# Altium footprint library CEP99102.PcbLib: 1 footprints
Each footprint in its own frame and in the unit in brackets; x right, y up, seen from the top. Pads: shape width x height; smd on the part's side, far side on the other; paste and mask are expansions set on the pad; w line width, h text height; cw(c..) or ccw(c..) is an arc to the next point about the centre after c.
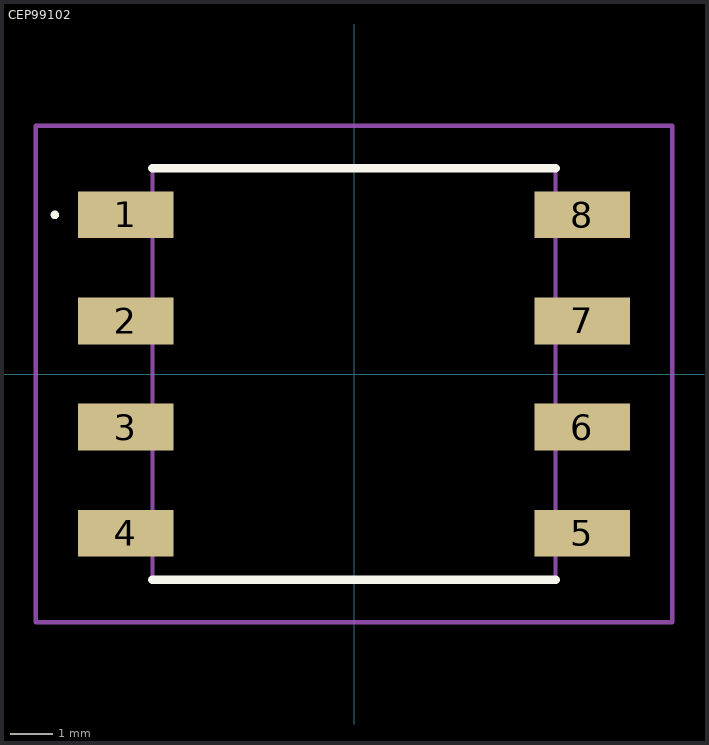
[diagram p0: the footprint, top view; thin cyan lines are the x and y axes]

## CEP99102 [mm]
pads (8):
  rect 2.25x1.1 smd: 1(-5.375,3.75) 2(-5.375,1.25) 3(-5.375,-1.25) 4(-5.375,-3.75) 5(5.375,-3.75) 6(5.375,-1.25) 7(5.375,1.25) 8(5.375,3.75)
Top Overlay:
  lines w0.1: -7.1,3.75 cw(c-7.05,3.75) -7,3.75 ; -7.1,3.75 -7.1,3.75 ; -7.1,3.75 ccw(c-7.05,3.75) -7,3.75 ; -7,3.75 -7,3.75
  lines w0.2: -4.75,-4.85 4.75,-4.85 ; -4.75,4.85 4.75,4.85
Mechanical 15:
  lines w0.1: -4.75,-4.85 4.75,-4.85 4.75,4.85 -4.75,4.85 -4.75,-4.85
Mechanical 20:
  lines w0.1: -7.5,-5.85 7.5,-5.85 7.5,5.85 -7.5,5.85 -7.5,-5.85